# EAGLE library part ADS112C04 (library ADS1100)
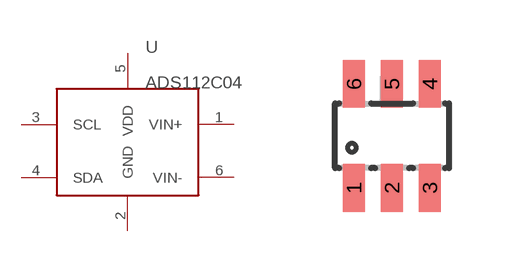
[diagram p0: symbol with the pads of SOT23-6; footprint SOT23-6]

Designator prefix U

## ADS112C04A0  [SOT23-6]
1  VIN+
2  GND
3  SCL
4  SDA
5  VDD
6  VIN-

## ADS112C04A1  [SOT23-6]
Pads as for SOT23-6

## ADS112C04A2  [SOT23-6]
Pads as for SOT23-6

## ADS112C04A3  [SOT23-6]
Pads as for SOT23-6

## ADS112C04A4  [SOT23-6]
Pads as for SOT23-6

## ADS112C04A5  [SOT23-6]
Pads as for SOT23-6

## ADS112C04A6  [SOT23-6]
Pads as for SOT23-6

## ADS112C04A7  [SOT23-6]
Pads as for SOT23-6

## Footprint SOT23-6 (pad centres in mm)
smd 0.55 x 1.2: 1 -0.95,-1.3; 2 0,-1.3; 3 0.95,-1.3; 4 0.95,1.3; 5 0,1.3; 6 -0.95,1.3